# EAGLE library part CQ82C55A (library newchips)
Intersil CMOS Programmable Peripheral Interface
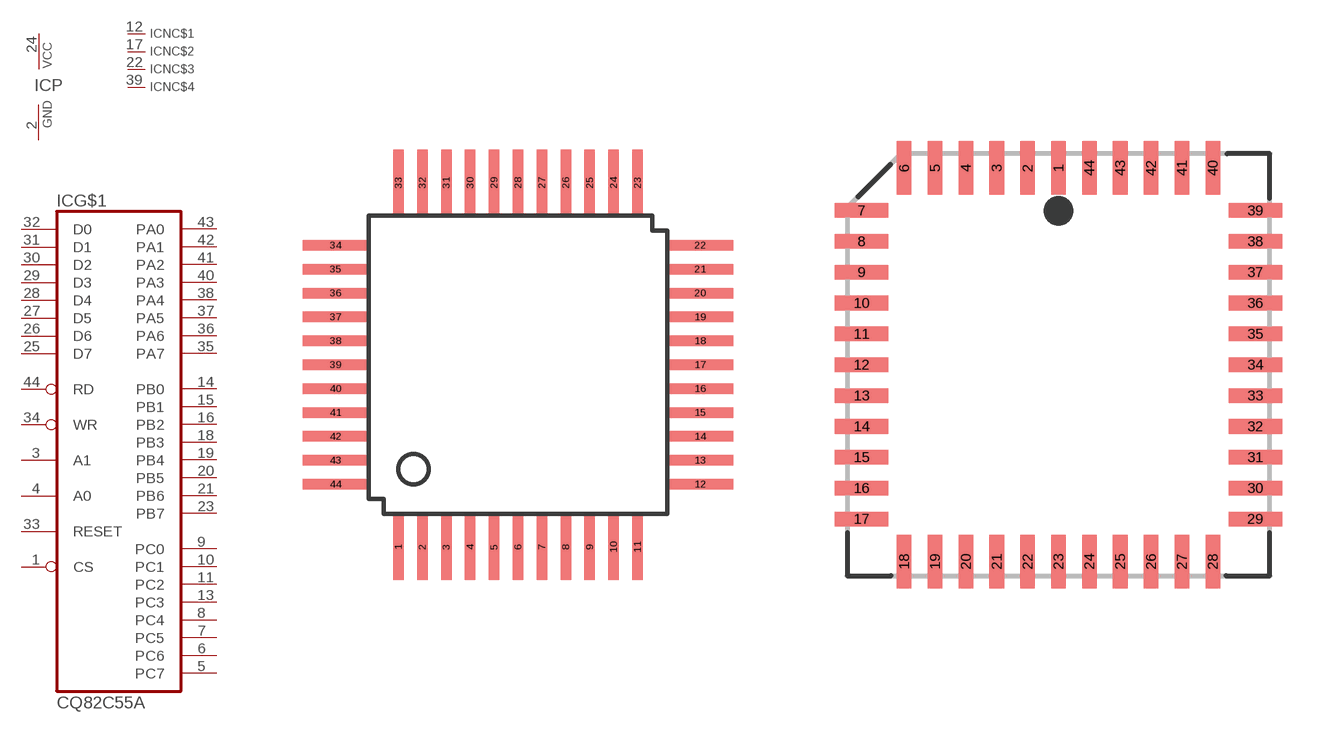
[diagram p12: symbol with the pads of MQFP44-2; footprints MQFP44-2, PLCC44]

Designator prefix IC; gates G$1=8255A P=PWRN NC$1=NC NC$2=NC NC$3=NC NC$4=NC

## CQ82C55AMQFP  [MQFP44-2]
1  G$1:CS  in
2  P:GND  pwr
3  G$1:A1  in
4  G$1:A0  in
5  G$1:PC7
6  G$1:PC6
7  G$1:PC5
8  G$1:PC4
9  G$1:PC0
10  G$1:PC1
11  G$1:PC2
12  NC$1:NC  nc
13  G$1:PC3
14  G$1:PB0
15  G$1:PB1
16  G$1:PB2
17  NC$2:NC  nc
18  G$1:PB3
19  G$1:PB4
20  G$1:PB5
21  G$1:PB6
22  NC$3:NC  nc
23  G$1:PB7
24  P:VCC  pwr
25  G$1:D7
26  G$1:D6
27  G$1:D5
28  G$1:D4
29  G$1:D3
30  G$1:D2
31  G$1:D1
32  G$1:D0
33  G$1:RESET  in
34  G$1:WR  in
35  G$1:PA7
36  G$1:PA6
37  G$1:PA5
38  G$1:PA4
39  NC$4:NC  nc
40  G$1:PA3
41  G$1:PA2
42  G$1:PA1
43  G$1:PA0
44  G$1:RD  in

## CQ82C55APLCC  [PLCC44]
1  NC$1:NC  nc
2  G$1:PA3
3  G$1:PA2
4  G$1:PA1
5  G$1:PA0
6  G$1:RD  in
7  G$1:CS  in
8  P:GND  pwr
9  G$1:A1  in
10  G$1:A0  in
11  G$1:PC7
12  NC$2:NC  nc
13  G$1:PC6
14  G$1:PC5
15  G$1:PC4
16  G$1:PC0
17  G$1:PC1
18  G$1:PC2
19  G$1:PC3
20  G$1:PB0
21  G$1:PB1
22  G$1:PB2
23  NC$3:NC  nc
24  G$1:PB3
25  G$1:PB4
26  G$1:PB5
27  G$1:PB6
28  G$1:PB7
29  P:VCC  pwr
30  G$1:D7
31  G$1:D6
32  G$1:D5
33  G$1:D4
34  NC$4:NC  nc
35  G$1:D3
36  G$1:D2
37  G$1:D1
38  G$1:D0
39  G$1:RESET  in
40  G$1:WR  in
41  G$1:PA7
42  G$1:PA6
43  G$1:PA5
44  G$1:PA4

## CQ82C55APLCC-SOCKET  [PLCC-S44]
Pads as for PLCC44

## Footprint MQFP44-2 (pad centres in mm)
Metric Quad Flat Pack
smd 0.35 x 2.2: 1 -4,-6.1; 2 -3.2,-6.1; 3 -2.4,-6.1; 4 -1.6,-6.1; 5 -0.8,-6.1; 6 0,-6.1; 7 0.8,-6.1; 8 1.6,-6.1; 9 2.4,-6.1; 10 3.2,-6.1; 11 4,-6.1; 23 4,6.1; 24 3.2,6.1; 25 2.4,6.1; 26 1.6,6.1; 27 0.8,6.1; 28 0,6.1; 29 -0.8,6.1; 30 -1.6,6.1; 31 -2.4,6.1; 32 -3.2,6.1; 33 -4,6.1
smd 2.2 x 0.35: 12 6.1,-4; 13 6.1,-3.2; 14 6.1,-2.4; 15 6.1,-1.6; 16 6.1,-0.8; 17 6.1,0; 18 6.1,0.8; 19 6.1,1.6; 20 6.1,2.4; 21 6.1,3.2; 22 6.1,4; 34 -6.1,4; 35 -6.1,3.2; 36 -6.1,2.4; 37 -6.1,1.6; 38 -6.1,0.8; 39 -6.1,0; 40 -6.1,-0.8; 41 -6.1,-1.6; 42 -6.1,-2.4; 43 -6.1,-3.2; 44 -6.1,-4

## Footprint PLCC44 (pad centres in mm)
Plastic Leaded Chip Carrier
smd 0.6 x 2.2: 1 0,8.1; 2 -1.27,8.1; 3 -2.54,8.1; 4 -3.81,8.1; 5 -5.08,8.1; 6 -6.35,8.1; 18 -6.35,-8.1; 19 -5.08,-8.1; 20 -3.81,-8.1; 21 -2.54,-8.1; 22 -1.27,-8.1; 23 0,-8.1; 24 1.27,-8.1; 25 2.54,-8.1; 26 3.81,-8.1; 27 5.08,-8.1; 28 6.35,-8.1; 40 6.35,8.1; 41 5.08,8.1; 42 3.81,8.1; 43 2.54,8.1; 44 1.27,8.1
smd 2.2 x 0.6: 7 -8.1,6.35; 8 -8.1,5.08; 9 -8.1,3.81; 10 -8.1,2.54; 11 -8.1,1.27; 12 -8.1,0; 13 -8.1,-1.27; 14 -8.1,-2.54; 15 -8.1,-3.81; 16 -8.1,-5.08; 17 -8.1,-6.35; 29 8.1,-6.35; 30 8.1,-5.08; 31 8.1,-3.81; 32 8.1,-2.54; 33 8.1,-1.27; 34 8.1,0; 35 8.1,1.27; 36 8.1,2.54; 37 8.1,3.81; 38 8.1,5.08; 39 8.1,6.35

## Footprint PLCC-S44 (pad centres in mm)
drill 0.813 pad 1.397 round: 1 1.27,6.35
drill 0.813 pad 1.397 octagon: 2 -1.27,8.89; 3 -1.27,6.35; 4 -3.81,8.89; 5 -3.81,6.35; 6 -6.35,8.89; 7 -8.89,6.35; 8 -6.35,6.35; 9 -8.89,3.81; 10 -6.35,3.81; 11 -8.89,1.27; 12 -6.35,1.27; 13 -8.89,-1.27; 14 -6.35,-1.27; 15 -8.89,-3.81; 16 -6.35,-3.81; 17 -8.89,-6.35; 18 -6.35,-8.89; 19 -6.35,-6.35; 20 -3.81,-8.89; 21 -3.81,-6.35; 22 -1.27,-8.89; 23 -1.27,-6.35; 24 1.27,-8.89; 25 1.27,-6.35; 26 3.81,-8.89; 27 3.81,-6.35; 28 6.35,-8.89; 29 8.89,-6.35; 30 6.35,-6.35; 31 8.89,-3.81; 32 6.35,-3.81; 33 8.89,-1.27; 34 6.35,-1.27; 35 8.89,1.27; 36 6.35,1.27; 37 8.89,3.81; 38 6.35,3.81; 39 8.89,6.35; 40 6.35,8.89; 41 6.35,6.35; 42 3.81,8.89; 43 3.81,6.35; 44 1.27,8.89